# EAGLE library part ADL5350 (library Analog Devices)
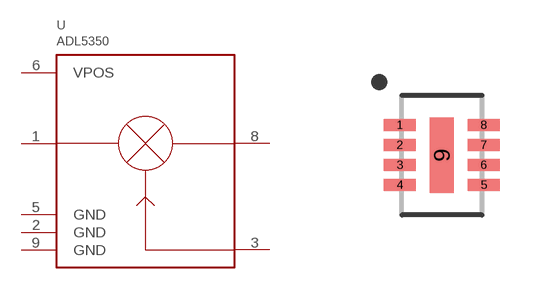
[diagram p31: symbol with the pads of LFCSP8_2X3; footprint LFCSP8_2X3]

Designator prefix U

## ADL5350  [LFCSP8_2X3]
1  RF/IF
2  GND
3  LOIN
5  GND
6  VPOS
8  RF/IF
9  GND

## Footprint LFCSP8_2X3 (pad centres in mm)
smd 0.8 x 0.3: 1 -1.05,0.75; 2 -1.05,0.25; 3 -1.05,-0.25; 4 -1.05,-0.75; 5 1.05,-0.75; 6 1.05,-0.25; 7 1.05,0.25; 8 1.05,0.75
smd 0.6 x 1.89: 9 0,0